# Altium integrated library Semiconductors.IntLib: 36 symbols (part 2 of 2)

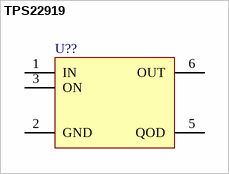
[diagram p23: symbol TPS22919]

## TPS22919
designator U??
pins: 1 IN, 2 GND, 3 ON, 5 QOD, 6 OUT


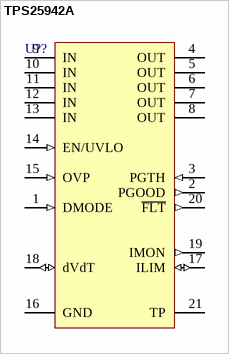
[diagram p24: symbol TPS25942A]

## TPS25942A
designator U??
pins: 1 DMODE (in), 2 PGOOD (out), 3 PGTH (in), 4 OUT, 5 OUT, 6 OUT, 7 OUT, 8 OUT, 9 IN, 10 IN, 11 IN, 12 IN, 13 IN, 14 EN/UVLO (in), 15 OVP (in), 16 GND (power), 17 ILIM (io), 18 dVdT (io), 19 IMON (out), 20 ~{FLT} (out), 21 TP (power)


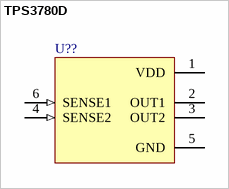
[diagram p25: symbol TPS3780D]

## TPS3780D
designator U??
pins: 1 VDD, 2 OUT1 (oc), 3 OUT2 (oc), 4 SENSE2 (in), 5 GND, 6 SENSE1 (in)


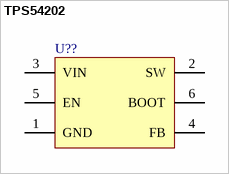
[diagram p26: symbol TPS54202]

## TPS54202
designator U??
pins: 1 GND, 2 SW, 3 VIN, 4 FB, 5 EN, 6 BOOT


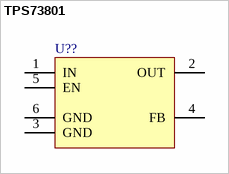
[diagram p27: symbol TPS73801]

## TPS73801
designator U??
pins: 1 IN, 2 OUT, 3 GND , 4 FB, 5 EN , 6 GND


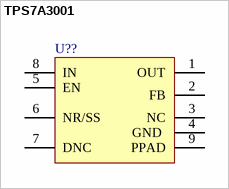
[diagram p28: symbol TPS7A3001]

## TPS7A3001
designator U??
pins: 1 OUT, 2 FB, 3 NC, 4 GND , 5 EN , 6 NR/SS, 7 DNC, 8 IN, 9 PPAD


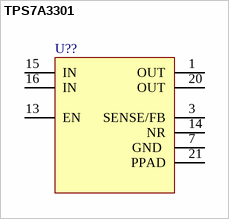
[diagram p29: symbol TPS7A3301]

## TPS7A3301
designator U??
pins: 1 OUT, 3 SENSE/FB, 7 GND , 13 EN , 14 NR, 15 IN, 16 IN, 20 OUT, 21 PPAD


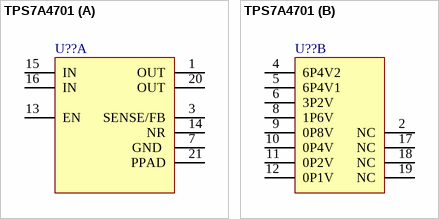
[diagram p30: symbol TPS7A4701]

## TPS7A4701
designator U??
part A pins: 1 OUT, 3 SENSE/FB, 7 GND , 13 EN , 14 NR, 15 IN, 16 IN, 20 OUT, 21 PPAD
part B pins: 2 NC, 4 6P4V2 , 5 6P4V1 , 6 3P2V , 8 1P6V , 9 0P8V, 10 0P4V, 11 0P2V , 12 0P1V , 17 NC, 18 NC, 19 NC


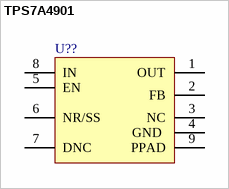
[diagram p31: symbol TPS7A4901]

## TPS7A4901
designator U??
pins: 1 OUT, 2 FB, 3 NC, 4 GND , 5 EN , 6 NR/SS, 7 DNC, 8 IN, 9 PPAD